# Altium footprint library LFPAK56.PcbLib: 1 footprints
Each footprint in its own frame and in the unit in brackets; x right, y up, seen from the top. Pads: shape width x height; smd on the part's side, far side on the other; paste and mask are expansions set on the pad; w line width, h text height; cw(c..) or ccw(c..) is an arc to the next point about the centre after c.
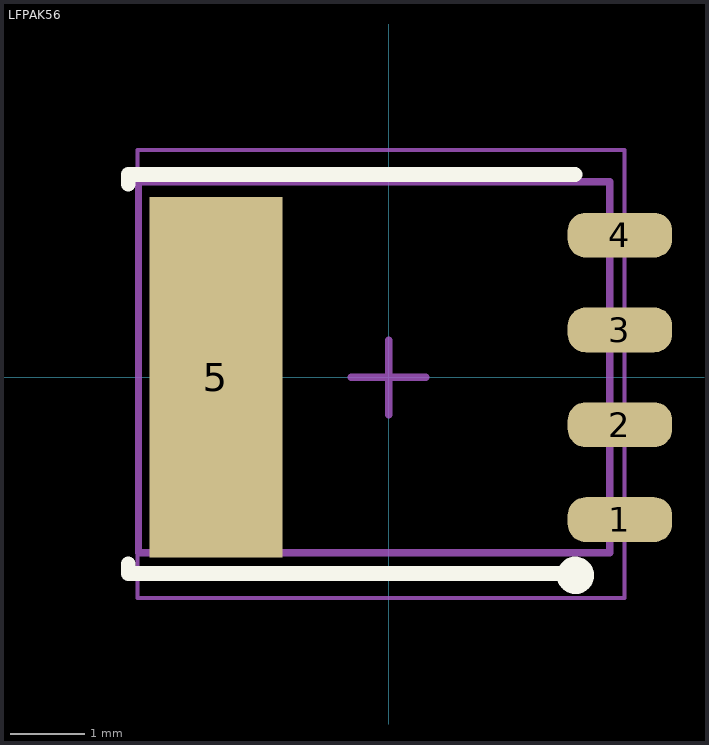
[diagram p0: the footprint, top view; thin cyan lines are the x and y axes]

## LFPAK56 [mm] "PQFN, 8-Leads, Body 3.30x3.33mm, Pitch 0.65mm, Thermal Pad 2.34x1.80mm, IPC Medium Density"
height 1.05
pads (5):
  rrect80% 1.4x0.6 smd: 1(3.1,-1.905) 2(3.1,-0.635) 3(3.1,0.635) 4(3.1,1.905)
  rect 1.78x4.826 smd: 5(-2.312,0)
Top Overlay:
  circle w0.25: c2.504,-2.653 r0.125
  lines w0.2: -3.488,-2.5 -3.488,-2.63 2.5,-2.63 ; -3.488,2.59 -3.487,2.72 2.5,2.72 ; 2.482,-2.63 2.483,-2.5
Top Courtyard:
  lines w0.05: -3.362,-2.955 3.163,-2.955 3.163,3.045 -3.363,3.045 -3.362,-2.955
  lines w0.1: -0.5,0 0.5,0 ; 0,-0.5 0,0.5
Top Assembly:
  lines w0.1: -3.35,-2.35 2.962,-2.35 2.962,2.62 -3.35,2.62 -3.35,-2.35
3D body "SOT669.step": height 0.95, standoff -0.05, extent -3.225,-2.405 2.885,2.405